# Altium schematic symbol library G2RL-1-DC12.SchLib: 1 symbol
Pins are listed as number, name and electrical type; pins without a type are passive.

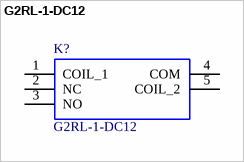
[diagram p0: symbol G2RL-1-DC12]

## G2RL-1-DC12
designator K?
General Purpose Relays Power PCB Relay SPDT 12VDC Class F; Manufacturer_Name: Omron Electronics; Mouser Part Number: 653-G2RL-1-DC12; Manufacturer_Part_Number: G2RL-1-DC12; Datasheet Link: https://componentsearchengine.com/Datasheets/1/G2RL-1-DC12.pdf
footprint G2RL14
pins: 1 COIL_1, 2 NC, 3 NO, 4 COM, 5 COIL_2